# Altium footprint library 2222SQ161JEC.PcbLib: 1 footprints
Each footprint in its own frame and in the unit in brackets; x right, y up, seen from the top. Pads: shape width x height; smd on the part's side, far side on the other; paste and mask are expansions set on the pad; w line width, h text height; cw(c..) or ccw(c..) is an arc to the next point about the centre after c.
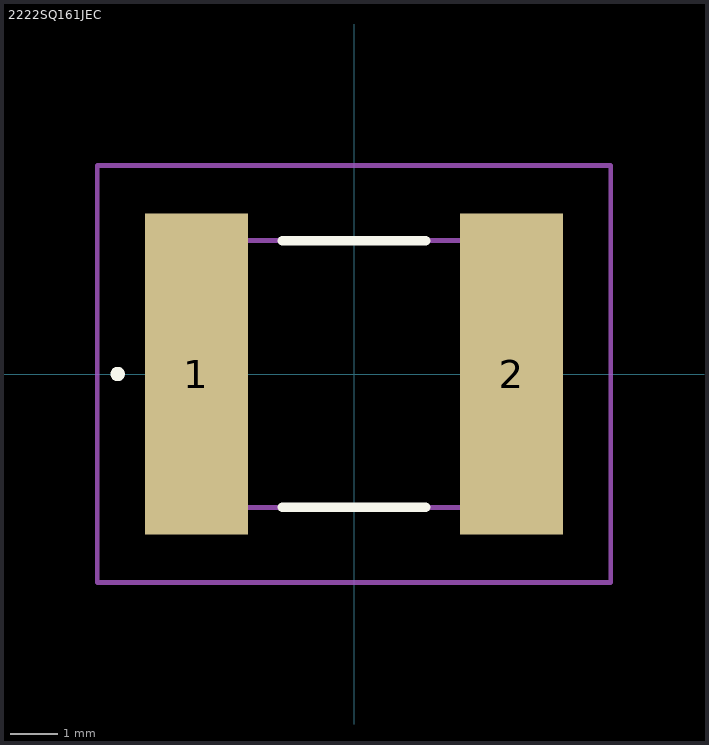
[diagram p0: the footprint, top view; thin cyan lines are the x and y axes]

## 2222SQ161JEC [mm]
pads (2):
  rect 2.16x6.73 smd: 1(-3.3,0) 2(3.3,0)
Top Overlay:
  lines w0.2: -1.5,-2.795 1.5,-2.795 ; -1.5,2.795 1.5,2.795 ; -5,0 -5,0 ; -5,0 ccw(c-4.95,0) -4.9,0 ; -5,0 cw(c-4.95,0) -4.9,0 ; -4.9,0 -4.9,0
Mechanical 15:
  lines w0.1: -3.685,-2.795 3.685,-2.795 3.685,2.795 -3.685,2.795 -3.685,-2.795
Mechanical 20:
  lines w0.1: -5.38,-4.365 5.38,-4.365 5.38,4.365 -5.38,4.365 -5.38,-4.365